# EAGLE library part DIP204B-4NLW (library lcd_displays)
Display 20 x 4 chars, either yellow-green or blue-white. SPI or Databus
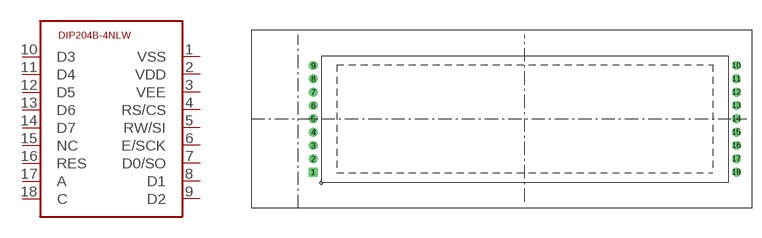
[diagram p2: symbol with the pads of DIP204B-4NLW; footprint DIP204B-4NLW]

Designator prefix -

## DIP204B-4NLW  [DIP204B-4NLW]
1  VSS  pas
2  VDD  pwr
3  VEE  in
4  RS/CS  in
5  RW/SI  in
6  E/SCK  in
7  D0/SO  in
8  D1  in
9  D2  in
10  D3  in
11  D4  in
12  D5  in
13  D6  in
14  D7  in
15  NC  in
16  RES  in
17  A  in
18  C  in

## Footprint DIP204B-4NLW (pad centres in mm)
Electronic Assembly DUAL 9 pinheader, pitch 2mm
drill 0.8 square: 1 9.25,5.4
drill 0.8 round: 2 9.25,7.4; 3 9.25,9.4; 4 9.25,11.4; 5 9.25,13.4; 6 9.25,15.4; 7 9.25,17.4; 8 9.25,19.4; 9 9.25,21.4; 10 72.75,21.4; 11 72.75,19.4; 12 72.75,17.4; 13 72.75,15.4; 14 72.75,13.4; 15 72.75,11.4; 16 72.75,9.4; 17 72.75,7.4; 18 72.75,5.4